# Altium footprint library PcbLib1.PcbLib: 68 footprints (part 1 of 5)
Each footprint in its own frame and in the unit in brackets; x right, y up, seen from the top. Pads: shape width x height; smd on the part's side, far side on the other; paste and mask are expansions set on the pad; w line width, h text height; cw(c..) or ccw(c..) is an arc to the next point about the centre after c.
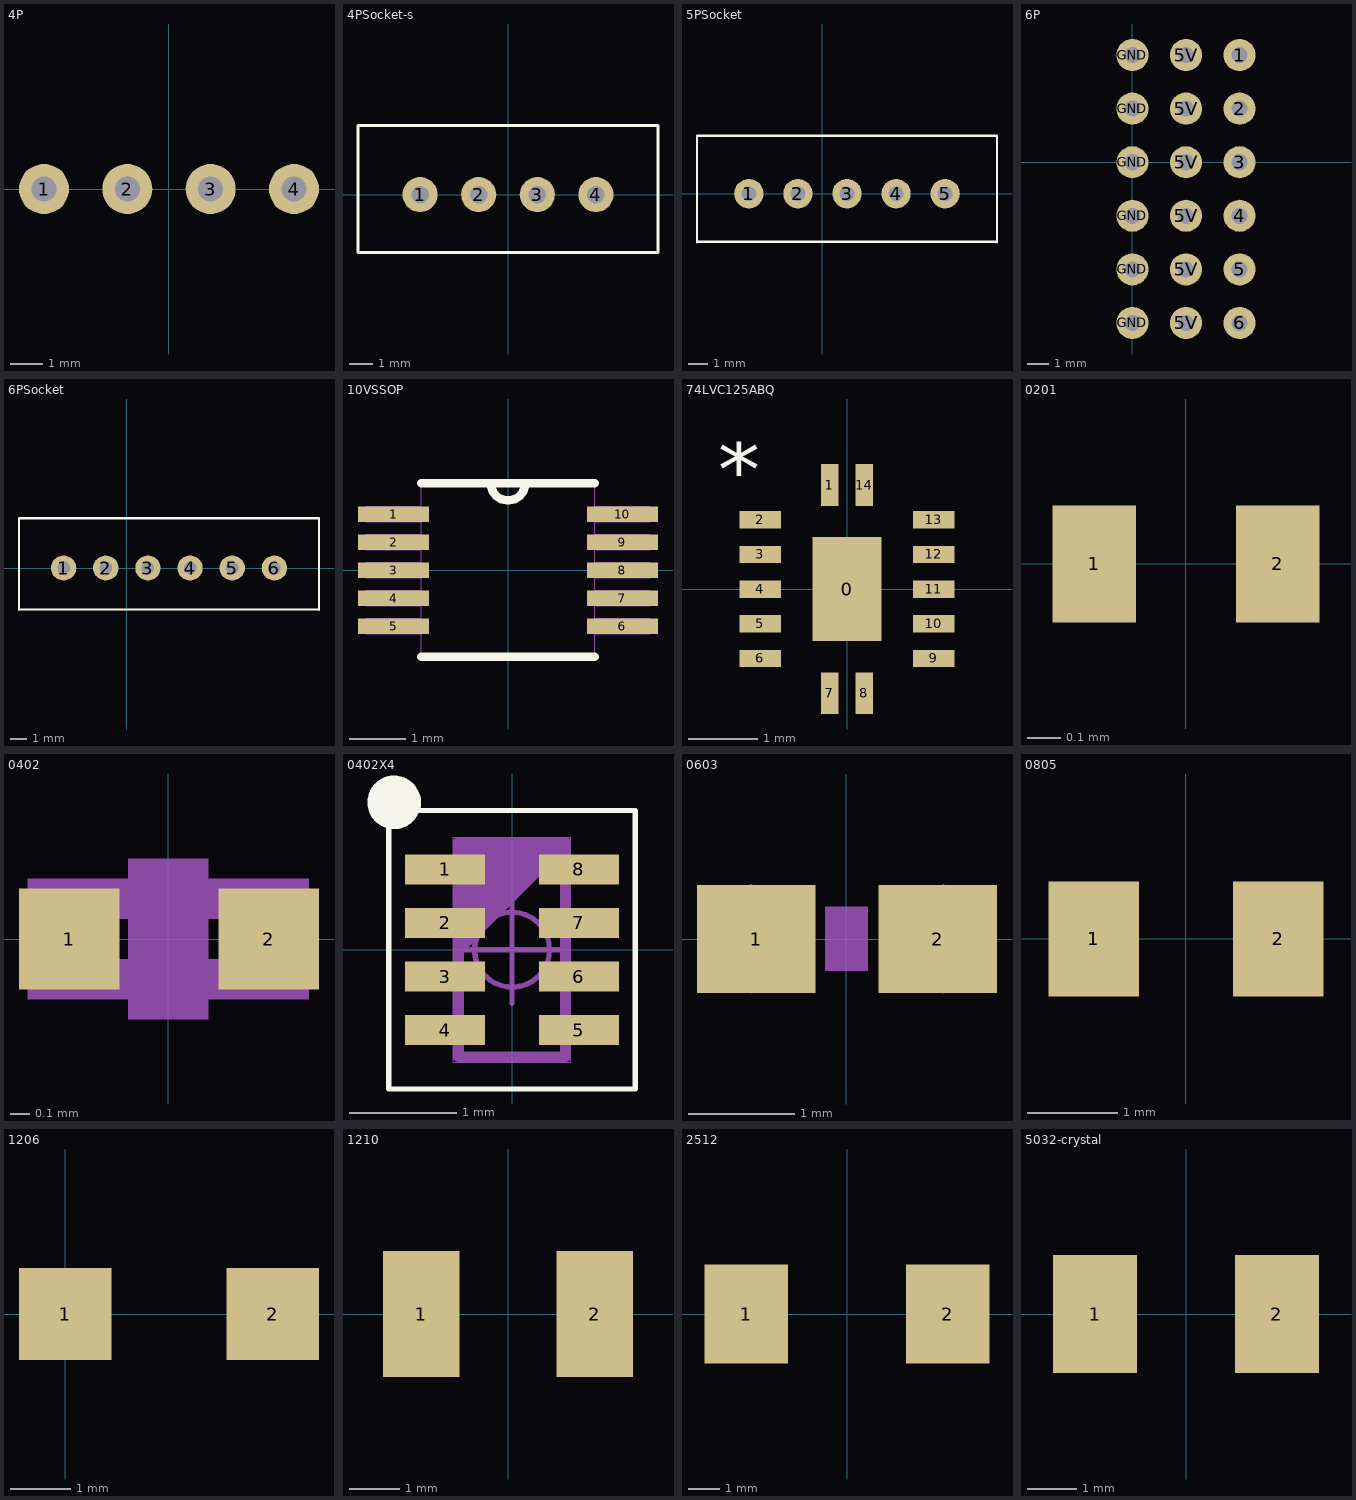
[diagram p0: the footprints below, top view; thin cyan lines are the x and y axes]

## 4P [mil]
pads (4):
  round 60 hole 30: 1(-150,0) 2(-50,0) 3(50,0) 4(150,0)

## 4PSocket-s [mil]
pads (4):
  round 60 hole 30: 1(-150,0) 2(-50,0) 3(50,0) 4(150,0)
Top Overlay:
  lines w5: -255.91,-99 -255.91,118 ; -255.91,-98.43 255.91,-98.43 ; -255.91,118.11 255.91,118.11 ; 255.91,-99 255.91,117

## 5PSocket [mil]
pads (5):
  round 60 hole 30: 1(-150,0) 2(-50,0) 3(50,0) 4(150,0) 5(250,0)
Top Overlay:
  lines w5: -255.91,-99 -255.91,118 ; -255.91,-98.43 355.9,-98.43 ; -255.91,118.11 355.9,118.11 ; 355.9,-99 355.9,117

## 6P [mil]
pads (18):
  round 60 hole 30: 1(200,200) 2(200,100) 3(200,0) 4(200,-100) 5(200,-200) 5V(100,-300) 5V(100,-200) 5V(100,-100) 5V(100,0) 5V(100,100) 5V(100,200) 6(200,-300) GND(0,-300) GND(0,-200) GND(0,-100) GND(0,0) GND(0,100) GND(0,200)

## 6PSocket [mil]
pads (6):
  round 60 hole 30: 1(-150,0) 2(-50,0) 3(50,0) 4(150,0) 5(250,0) 6(350,0)
Top Overlay:
  lines w5: -255.91,-99 -255.91,118 ; -255.91,-98.43 455.9,-98.43 ; -255.91,118.11 455.9,118.11 ; 455.9,-99 455.9,117

## 10VSSOP [mil]
pads (10):
  rect 50x11 smd: 1(-80.5,39.37) 2(-80.5,19.68) 3(-80.5,0) 4(-80.5,-19.68) 5(-80.5,-39.37) 6(80.5,-39.37) 7(80.5,-19.68) 8(80.5,0) 9(80.5,19.68) 10(80.5,39.37)
Top Overlay:
  lines w6: -61,-61 61,-61 ; -61,61 61,61 ; -12,61 ccw(c0,61) 12,61
Mechanical 1:
  lines w0: -12,61 ccw(c0,61) 12,61 ; -99.5,-44.87 -99.5,-33.87 -61,-33.87 -61,-44.87 -99.5,-44.87 ; -99.5,-25.18 -99.5,-14.19 -61,-14.19 -61,-25.18 -99.5,-25.18 ; -99.5,-5.5 -99.5,5.5 -61,5.5 -61,-5.5 -99.5,-5.5 ; -99.5,14.19 -99.5,25.18 -61,25.18 -61,14.19 -99.5,14.19 ; -99.5,33.87 -99.5,44.87 -61,44.87 -61,33.87 -99.5,33.87 ; -61,-61 61,-61 61,61 -61,61 -61,-61 ; 61,-44.87 61,-33.87 99.5,-33.87 99.5,-44.87 61,-44.87 ; 61,-25.18 61,-14.19 99.5,-14.19 99.5,-25.18 61,-25.18 ; 61,-5.5 61,5.5 99.5,5.5 99.5,-5.5 61,-5.5 ; 61,14.19 61,25.18 99.5,25.18 99.5,14.19 61,14.19 ; 61,33.87 61,44.87 99.5,44.87 99.5,33.87 61,33.87

## 74LVC125ABQ [mm]
pads (15):
  rect 1x1.5 smd: 0(0,0)
  rect 0.25x0.6 smd: 1(-0.25,1.5) 7(-0.25,-1.5) 8(0.25,-1.5) 14(0.25,1.5)
  rect 0.6x0.25 smd: 2(-1.25,1) 3(-1.25,0.5) 4(-1.25,0) 5(-1.25,-0.5) 6(-1.25,-1) 9(1.25,-1) 10(1.25,-0.5) 11(1.25,0) 12(1.25,0.5) 13(1.25,1)
Top Overlay:
  text "*" at -1.25,1 h1.52
3D body: height 1, standoff 0, extent -1.25,-1.5 1.25,1.5

## 0201 [mm]
pads (2):
  rect 0.25x0.35 smd: 1(-0.275,0) 2(0.275,0)
3D body: height 0.23, standoff 0, extent -0.3,-0.15 0.3,0.15

## 0402 [mil] "0402-RES"
pads (2):
  rect 20x20 smd: 1(-19.68,0) 2(20,0)
Mechanical 6:
  rectangle: -8,-16 8,16
Mechanical 16:
  rectangle: 16,-12 28,12
  rectangle: -28,-12 -16,12
  lines w8: -20,-8 20,-8 ; -20,8 20,8

## 0402X4 [mm]
pads (8):
  rect 0.75x0.28 smd: 1(-0.625,0.75) 2(-0.625,0.25) 3(-0.625,-0.25) 4(-0.625,-0.75) 5(0.625,-0.75) 6(0.625,-0.25) 7(0.625,0.25) 8(0.625,0.75)
Top Overlay:
  circle w0.25: c-1.1,1.375 r0.125
  lines w0.05: -1.15,-1.3 1.15,-1.3 1.15,1.3 -1.15,1.3 -1.15,-1.3
Mechanical 1:
  lines w0.1: 0.5,1 0.5,-1 -0.5,-1 -0.5,1 0.5,1 ; 0.5,1 -0.5,0 0.5,1 ; -0.5,0.1 0.4,1 -0.5,0.1 ; -0.5,0.2 0.3,1 -0.5,0.2 ; -0.5,0.3 0.2,1 -0.5,0.3 ; -0.5,0.4 0.1,1 -0.5,0.4 ; -0.5,0.5 0,1 -0.5,0.5 ; -0.5,0.6 -0.1,1 -0.5,0.6 ; -0.5,0.7 -0.2,1 -0.5,0.7 ; -0.5,0.8 -0.3,1 -0.5,0.8 ; -0.5,0.9 -0.4,1 -0.5,0.9
  text "R1" at 0.18,-0.199 h0.3
Mechanical 16:
  circle w0.05: c0,0 r0.35
  lines w0.001: -0.55,-1.05 0.55,-1.05 0.55,1.05 -0.55,1.05 -0.55,-1.05
  lines w0.05: -0.5,0 0.5,0 ; 0,-0.5 0,0.5

## 0603 [mil] "0603-RES"
pads (2):
  rect 44x40 smd: 1(-33.46,0) 2(34,0)
Mechanical 6:
  rectangle: -7.87,-11.81 8,12
Mechanical 16:
  rectangle: -32.98,-18.5 -13.29,19
  rectangle: 13,-18.5 33,19
  lines w1: -35.43,-19.68 -35.43,20 ; 36,-19.68 36,20

## 0805 [mm]
pads (2):
  rect 1x1.27 smd: 1(-1.016,0) 2(1.016,0)
3D body: height 0.8, standoff 0, extent -1.27,-0.762 1.27,0.762

## 1206 [mil]
pads (2):
  rect 60x60 smd: 1(0,0) 2(135,0)

## 1210 [mm]
pads (2):
  rect 1.52x2.5 smd: 1(-1.715,0) 2(1.715,0)

## 2512 [mm]
pads (2):
  rect 2.7x3.2 smd: 1(-3.25,0) 2(3.25,0)

## 5032-crystal [mm]
pads (2):
  rect 1.7x2.4 smd: 1(-1.85,0) 2(1.85,0)
3D body: height 1.2, standoff 0, extent -2.54,-1.651 2.54,1.651